# Altium footprint library SJMP_0402.PcbLib: 1 footprints
Each footprint in its own frame and in the unit in brackets; x right, y up, seen from the top. Pads: shape width x height; smd on the part's side, far side on the other; paste and mask are expansions set on the pad; w line width, h text height; cw(c..) or ccw(c..) is an arc to the next point about the centre after c.
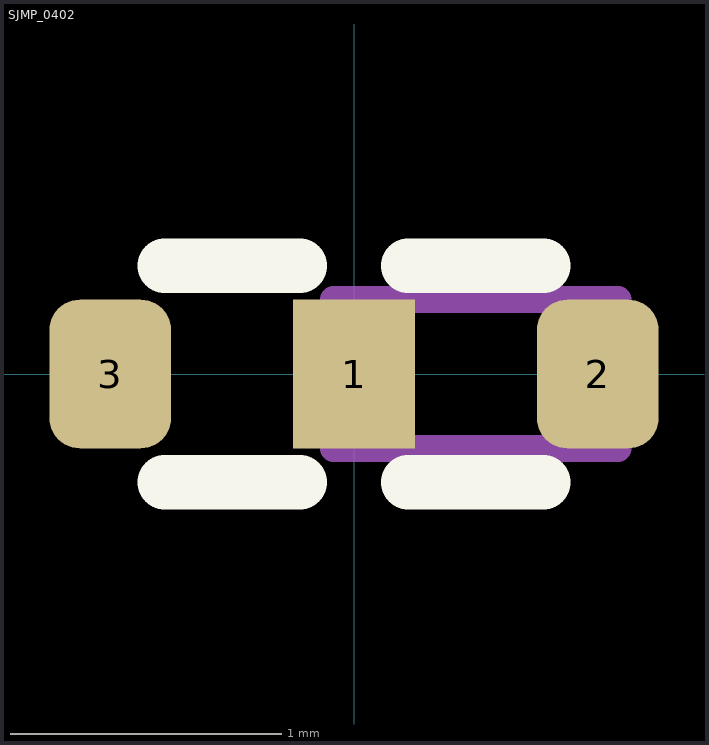
[diagram p0: the footprint, top view; thin cyan lines are the x and y axes]

## SJMP_0402 [mm]
pads (3):
  rect 0.45x0.55 smd: 1(0,0)
  rrect50% 0.45x0.55 smd: 2(0.9,0) 3(-0.9,0)
Top Overlay:
  lines w0.2: -0.7,-0.4 -0.2,-0.4 ; -0.7,0.4 -0.2,0.4 ; 0.2,-0.4 0.7,-0.4 ; 0.2,0.4 0.7,0.4
Mechanical 13:
  lines w0.1: -0.075,-0.275 -0.075,0.275 0.975,0.275 0.975,-0.275 -0.075,-0.275
3D body "SMD RLC-0402.STEP": height 0.27, standoff -0.08, extent -0.032,-0.25 0.968,0.25